# Altium footprint library TO-263-6.PcbLib: 1 footprints
Each footprint in its own frame and in the unit in brackets; x right, y up, seen from the top. Pads: shape width x height; smd on the part's side, far side on the other; paste and mask are expansions set on the pad; w line width, h text height; cw(c..) or ccw(c..) is an arc to the next point about the centre after c.
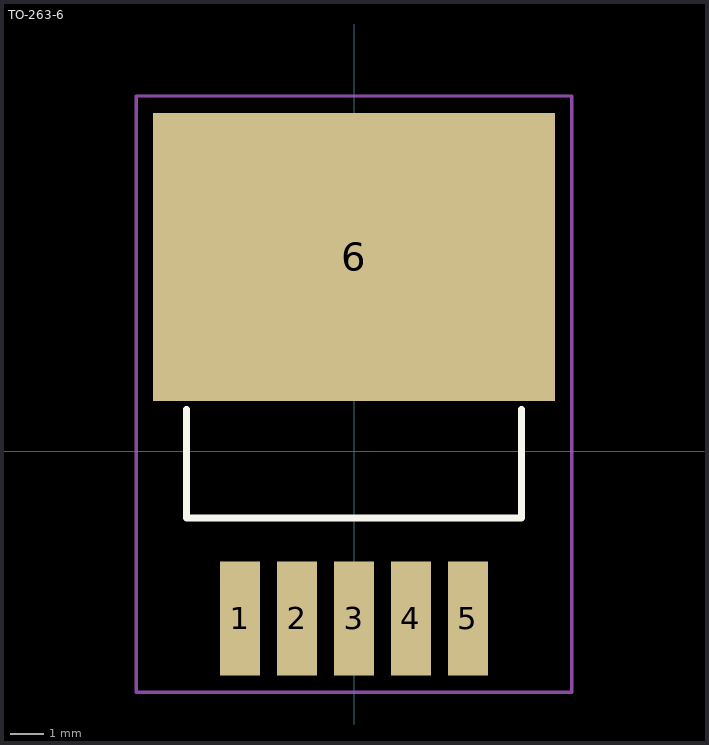
[diagram p0: the footprint, top view; thin cyan lines are the x and y axes]

## TO-263-6 [mm]
pads (6):
  rect 1.2x3.4 smd: 1(-3.4,-5) 2(-1.7,-5) 3(0,-5) 4(1.7,-5) 5(3.4,-5)
  rect 12x8.6 smd: 6(0,5.8)
Top Overlay:
  lines w0.2: -5,1.25 -5,-2 5,-2 5,1.25
Top Courtyard:
  lines w0.1: -6.5,-7.2 -6.5,10.6 6.5,10.6 6.5,-7.2 -6.5,-7.2
3D body "IC_ON_Semiconductor_LM2576D2T-005G_eec.STEP": height 0.25, standoff 0, extent -5.425,-6.775 5.435,9.445